# Altium schematic symbol library 4 pin header replace.SCHLIB: 1 symbol
Pins are listed as number, name and electrical type; pins without a type are passive.

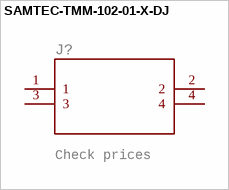
[diagram p0: symbol SAMTEC-TMM-102-01-X-DJ]

## SAMTEC-TMM-102-01-X-DJ
designator J?, comment Check prices
GateName_1: A; SymbolName_1: SAMTEC-TMM-102-01-X-DA; DeviceName: J; DeviceSetName: SAMTEC-TMM-102-01-X-D; MP: TMM-102-01-T-D; Description: Conn Unshrouded Header HDR 4 POS 2mm Solder ST Top Entry Thru-Hole Bulk; MF: Samtec Inc.; LibraryName: 4 pin header replace; Package: SAMTEC-TMM-102-01-X-D; Availability: In Stock; Purchase-URL: https://pricing.snapeda.com/search/part/TMM-102-01-T-D/?ref=eda; Package: None; Price: None
footprint SAMTEC-TMM-102-01-X-D
pins: 1, 2, 3, 4